# Altium footprint library TKF.PcbLib: 1 footprints
Each footprint in its own frame and in the unit in brackets; x right, y up, seen from the top. Pads: shape width x height; smd on the part's side, far side on the other; paste and mask are expansions set on the pad; w line width, h text height; cw(c..) or ccw(c..) is an arc to the next point about the centre after c.
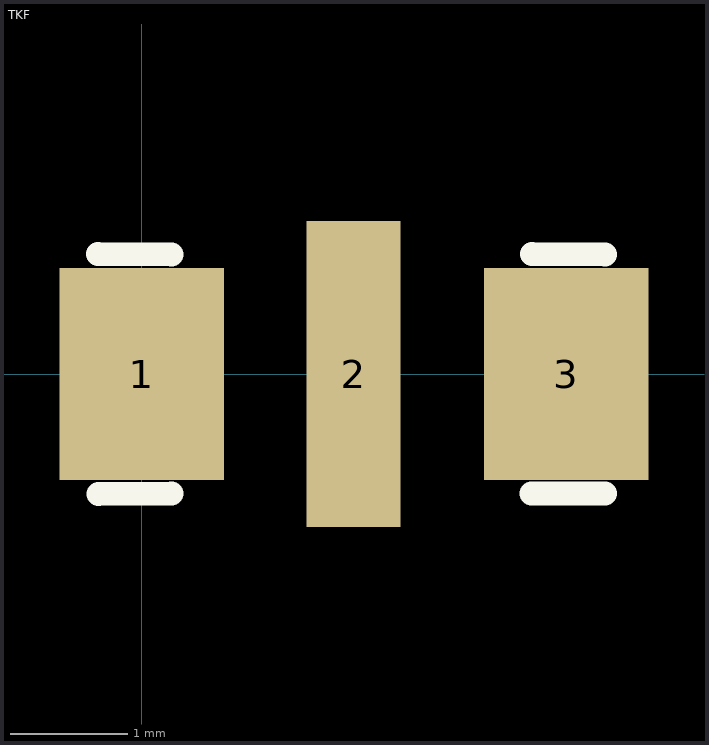
[diagram p0: the footprint, top view; thin cyan lines are the x and y axes]

## TKF [mm]
pads (3):
  rect 1.4x1.8 smd: 1(0,0) 3(3.607,0)
  rect 0.8x2.6 smd: 2(1.8,0)
Top Overlay:
  lines w0.203: -0.37,1.018 0.254,1.016 ; -0.367,-1.018 0.254,-1.016 ; 3.311,-1.016 3.937,-1.016 ; 3.317,1.018 3.937,1.016